# Altium footprint library Pattern No3d 20090609.PcbLib: 323 footprints (part 4 of 22)
Each footprint in its own frame and in the unit in brackets; x right, y up, seen from the top. Pads: shape width x height; smd on the part's side, far side on the other; paste and mask are expansions set on the pad; w line width, h text height; cw(c..) or ccw(c..) is an arc to the next point about the centre after c.
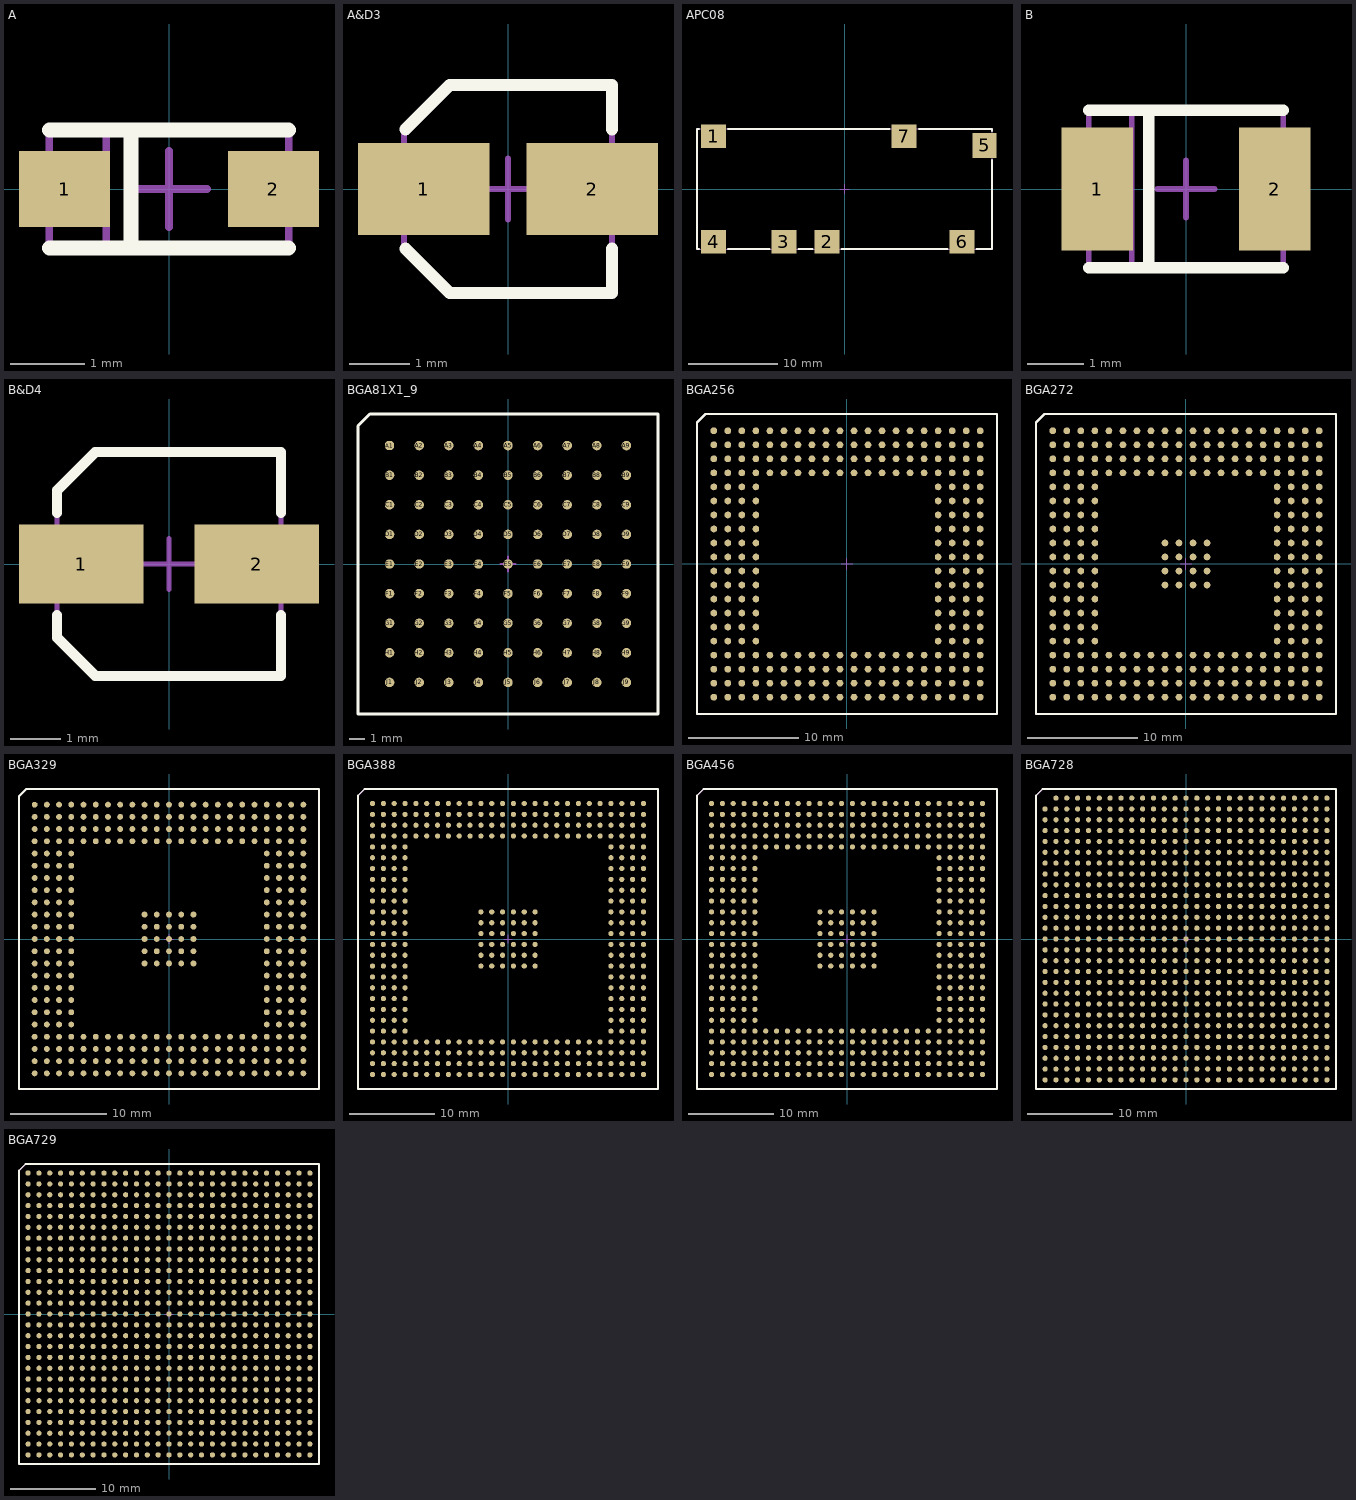
[diagram p3: the footprints below, top view; thin cyan lines are the x and y axes]

## A [mil] "http://www.rohm.com/products/passive/ta_capacitor/pdf/catalog.pdf (Case A)"
pads (2):
  rect 48x40 smd mask+4: 1(-55,0) 2(55,0)
Top Overlay:
  lines w8: -63,-31 63,-31 ; -63,31 63,31 ; -20,-31 -20,31
Mechanical 1:
  lines w4: -33,-31 -33,31 ; -63,-31 63,-31 63,31 -63,31 -63,-31
Mechanical 15:
  lines w4: -20,0 20,0 ; 0,-20 0,20

## A&D3 [mil] "http://www.panasonic.com/industrial/components/pdf/pic_vs_series.pdf (Size A)"
pads (2):
  rect 86x60 smd mask+4: 1(-55,0) 2(55,0)
Top Overlay:
  lines w8: -67,-39 -38,-68 68,-68 68,-39 ; -67,39 -38,68 68,68 68,39
Mechanical 1:
  lines w4: -68,-38 -68,38 -38,68 68,68 68,-68 -38,-68 -68,-38
Mechanical 15:
  lines w4: -20,0 20,0 ; 0,-20 0,20

## APC08 [mil] "http://www.powerconversion.com/assets/apc08_ds_1191525496.pdf"
pads (7):
  rect 110x104 smd mask+4: 1(-577,232) 2(-77,-232) 3(-267,-232) 4(-577,-232) 6(518,-232) 7(263,232)
  rect 104x110 smd mask+4: 5(617,192)
Top Overlay:
  lines w8: -641,-265 -650,-265 -650,265 -641,265 ; -513,-265 -331,-265 ; -513,265 199,265 ; -203,-265 -141,-265 ; -13,-265 454,-265 ; 327,265 650,265 650,256 ; 582,-265 650,-265 650,128
Mechanical 1:
  lines w4: -650,-265 -650,265 650,265 650,-265 -650,-265
Mechanical 15:
  lines w4: -20,0 20,0 ; 0,-20 0,20

## B [mil] "http://www.rohm.com/products/passive/ta_capacitor/pdf/catalog.pdf (Case B)"
pads (2):
  rect 50x86 smd mask+4: 1(-62,0) 2(62,0)
Top Overlay:
  lines w8: -68,-55 68,-55 ; -68,55 68,55 ; -26,-55 -26,55
Mechanical 1:
  lines w4: -38,-55 -38,55 ; -68,-55 -68,55 68,55 68,-55 -68,-55
Mechanical 15:
  lines w4: -20,0 20,0 ; 0,-20 0,20

## B&D4 [mil] "http://www.panasonic.com/industrial/components/pdf/pic_vs_series.pdf (Size B)"
pads (2):
  rect 98x62 smd mask+4: 1(-69,0) 2(69,0)
Top Overlay:
  lines w8: -88,-40 -88,-58 -58,-88 88,-88 88,-40 ; -88,40 -88,58 -58,88 88,88 88,40
Mechanical 1:
  lines w4: -88,-58 -58,-88 88,-88 88,88 -58,88 -88,58 -88,-58
Mechanical 15:
  lines w4: -20,0 20,0 ; 0,-20 0,20

## BGA81X1_9 [mil] "http://www.nationalhybrid.com:8080/downloads/NHI-156XXXPBGA_Product_Brief.pdf"
pads (81):
  oct 23x23 smd mask+3: A1(-300,300)
  round 24 smd mask+3: A2(-225,300) A3(-150,300) A4(-75,300) A5(0,300) A6(75,300) A7(150,300) A8(225,300) A9(300,300) B1(-300,225) B2(-225,225) B3(-150,225) B4(-75,225) B5(0,225) B6(75,225) B7(150,225) B8(225,225) B9(300,225) C1(-300,150) C2(-225,150) C3(-150,150) C4(-75,150) C5(0,150) C6(75,150) C7(150,150) C8(225,150) C9(300,150) D1(-300,75) D2(-225,75) D3(-150,75) D4(-75,75) D5(0,75) D6(75,75) D7(150,75) D8(225,75) D9(300,75) E1(-300,0) E2(-225,0) E3(-150,0) E4(-75,0) E5(0,0) E6(75,0) E7(150,0) E8(225,0) E9(300,0) F1(-300,-75) F2(-225,-75) F3(-150,-75) F4(-75,-75) F5(0,-75) F6(75,-75) F7(150,-75) F8(225,-75) F9(300,-75) G1(-300,-150) G2(-225,-150) G3(-150,-150) G4(-75,-150) G5(0,-150) G6(75,-150) G7(150,-150) G8(225,-150) G9(300,-150) H1(-300,-225) H2(-225,-225) H3(-150,-225) H4(-75,-225) H5(0,-225) H6(75,-225) H7(150,-225) H8(225,-225) H9(300,-225) J1(-300,-300) J2(-225,-300) J3(-150,-300) J4(-75,-300) J5(0,-300) J6(75,-300) J7(150,-300) J8(225,-300) J9(300,-300)
Top Overlay:
  lines w8: -380,-380 -380,350 -350,380 380,380 380,-380 -380,-380
Mechanical 1:
  lines w4: -380,-380 -380,350 -350,380 380,380 380,-380 -380,-380
Mechanical 15:
  lines w4: -20,0 20,0 ; 0,-20 0,20

## BGA256 [mil] "http://www.xilinx.com/support/documentation/package_specs/bg256.pdf"
pads (256):
  oct 23x23 smd mask+3: A1(-475,475)
  round 24 smd mask+3: A2(-425,475) A3(-375,475) A4(-325,475) A5(-275,475) A6(-225,475) A7(-175,475) A8(-125,475) A9(-75,475) A10(-25,475) A11(25,475) A12(75,475) A13(125,475) A14(175,475) A15(225,475) A16(275,475) A17(325,475) A18(375,475) A19(425,475) A20(475,475) B1(-475,425) B2(-425,425) B3(-375,425) B4(-325,425) B5(-275,425) B6(-225,425) B7(-175,425) B8(-125,425) B9(-75,425) B10(-25,425) B11(25,425) B12(75,425) B13(125,425) B14(175,425) B15(225,425) B16(275,425) B17(325,425) B18(375,425) B19(425,425) B20(475,425) C1(-475,375) C2(-425,375) C3(-375,375) C4(-325,375) C5(-275,375) C6(-225,375) C7(-175,375) C8(-125,375) C9(-75,375) C10(-25,375) C11(25,375) C12(75,375) C13(125,375) C14(175,375) C15(225,375) C16(275,375) C17(325,375) C18(375,375) C19(425,375) C20(475,375) D1(-475,325) D2(-425,325) D3(-375,325) D4(-325,325) D5(-275,325) D6(-225,325) D7(-175,325) D8(-125,325) D9(-75,325) D10(-25,325) D11(25,325) D12(75,325) D13(125,325) D14(175,325) D15(225,325) D16(275,325) D17(325,325) D18(375,325) D19(425,325) D20(475,325) E1(-475,275) E2(-425,275) E3(-375,275) E4(-325,275) E17(325,275) E18(375,275) E19(425,275) E20(475,275) F1(-475,225) F2(-425,225) F3(-375,225) F4(-325,225) F17(325,225) F18(375,225) F19(425,225) F20(475,225) G1(-475,175) G2(-425,175) G3(-375,175) G4(-325,175) G17(325,175) G18(375,175) G19(425,175) G20(475,175) H1(-475,125) H2(-425,125) H3(-375,125) H4(-325,125) H17(325,125) H18(375,125) H19(425,125) H20(475,125) J1(-475,75) J2(-425,75) J3(-375,75) J4(-325,75) J17(325,75) J18(375,75) J19(425,75) J20(475,75) K1(-475,25) K2(-425,25) K3(-375,25) K4(-325,25) K17(325,25) K18(375,25) K19(425,25) K20(475,25) L1(-475,-25) L2(-425,-25) L3(-375,-25) L4(-325,-25) L17(325,-25) L18(375,-25) L19(425,-25) L20(475,-25) M1(-475,-75) M2(-425,-75) M3(-375,-75) M4(-325,-75) M17(325,-75) M18(375,-75) M19(425,-75) M20(475,-75) N1(-475,-125) N2(-425,-125) N3(-375,-125) N4(-325,-125) N17(325,-125) N18(375,-125) N19(425,-125) N20(475,-125) P1(-475,-175) P2(-425,-175) P3(-375,-175) P4(-325,-175) P17(325,-175) P18(375,-175) P19(425,-175) P20(475,-175) R1(-475,-225) R2(-425,-225) R3(-375,-225) R4(-325,-225) R17(325,-225) R18(375,-225) R19(425,-225) R20(475,-225) T1(-475,-275) T2(-425,-275) T3(-375,-275) T4(-325,-275) T17(325,-275) T18(375,-275) T19(425,-275) T20(475,-275) U1(-475,-325) U2(-425,-325) U3(-375,-325) U4(-325,-325) U5(-275,-325) U6(-225,-325) U7(-175,-325) U8(-125,-325) U9(-75,-325) U10(-25,-325) U11(25,-325) U12(75,-325) U13(125,-325) U14(175,-325) U15(225,-325) U16(275,-325) U17(325,-325) U18(375,-325) U19(425,-325) U20(475,-325) V1(-475,-375) V2(-425,-375) V3(-375,-375) V4(-325,-375) V5(-275,-375) V6(-225,-375) V7(-175,-375) V8(-125,-375) V9(-75,-375) V10(-25,-375) V11(25,-375) V12(75,-375) V13(125,-375) V14(175,-375) V15(225,-375) V16(275,-375) V17(325,-375) V18(375,-375) V19(425,-375) V20(475,-375) W1(-475,-425) W2(-425,-425) W3(-375,-425) W4(-325,-425) W5(-275,-425) W6(-225,-425) W7(-175,-425) W8(-125,-425) W9(-75,-425) W10(-25,-425) W11(25,-425) W12(75,-425) W13(125,-425) W14(175,-425) W15(225,-425) W16(275,-425) W17(325,-425) W18(375,-425) W19(425,-425) W20(475,-425) Y1(-475,-475) Y2(-425,-475) Y3(-375,-475) Y4(-325,-475) Y5(-275,-475) Y6(-225,-475) Y7(-175,-475) Y8(-125,-475) Y9(-75,-475) Y10(-25,-475) Y11(25,-475) Y12(75,-475) Y13(125,-475) Y14(175,-475) Y15(225,-475) Y16(275,-475) Y17(325,-475) Y18(375,-475) Y19(425,-475) Y20(475,-475)
Top Overlay:
  lines w8: -535,-535 -535,505 -505,535 535,535 535,-535 -535,-535
Mechanical 1:
  lines w4: -535,-535 -535,505 -505,535 535,535 535,-535 -535,-535
Mechanical 15:
  lines w4: -20,0 20,0 ; 0,-20 0,20

## BGA272 [mil] "http://www.actel.com/documents/PckgMechDrwngs.pdf (PBGA272)"
pads (272):
  oct 23x23 smd mask+3: A1(-475,475)
  round 24 smd mask+3: A2(-425,475) A3(-375,475) A4(-325,475) A5(-275,475) A6(-225,475) A7(-175,475) A8(-125,475) A9(-75,475) A10(-25,475) A11(25,475) A12(75,475) A13(125,475) A14(175,475) A15(225,475) A16(275,475) A17(325,475) A18(375,475) A19(425,475) A20(475,475) B1(-475,425) B2(-425,425) B3(-375,425) B4(-325,425) B5(-275,425) B6(-225,425) B7(-175,425) B8(-125,425) B9(-75,425) B10(-25,425) B11(25,425) B12(75,425) B13(125,425) B14(175,425) B15(225,425) B16(275,425) B17(325,425) B18(375,425) B19(425,425) B20(475,425) C1(-475,375) C2(-425,375) C3(-375,375) C4(-325,375) C5(-275,375) C6(-225,375) C7(-175,375) C8(-125,375) C9(-75,375) C10(-25,375) C11(25,375) C12(75,375) C13(125,375) C14(175,375) C15(225,375) C16(275,375) C17(325,375) C18(375,375) C19(425,375) C20(475,375) D1(-475,325) D2(-425,325) D3(-375,325) D4(-325,325) D5(-275,325) D6(-225,325) D7(-175,325) D8(-125,325) D9(-75,325) D10(-25,325) D11(25,325) D12(75,325) D13(125,325) D14(175,325) D15(225,325) D16(275,325) D17(325,325) D18(375,325) D19(425,325) D20(475,325) E1(-475,275) E2(-425,275) E3(-375,275) E4(-325,275) E17(325,275) E18(375,275) E19(425,275) E20(475,275) F1(-475,225) F2(-425,225) F3(-375,225) F4(-325,225) F17(325,225) F18(375,225) F19(425,225) F20(475,225) G1(-475,175) G2(-425,175) G3(-375,175) G4(-325,175) G17(325,175) G18(375,175) G19(425,175) G20(475,175) H1(-475,125) H2(-425,125) H3(-375,125) H4(-325,125) H17(325,125) H18(375,125) H19(425,125) H20(475,125) J1(-475,75) J2(-425,75) J3(-375,75) J4(-325,75) J9(-75,75) J10(-25,75) J11(25,75) J12(75,75) J17(325,75) J18(375,75) J19(425,75) J20(475,75) K1(-475,25) K2(-425,25) K3(-375,25) K4(-325,25) K9(-75,25) K10(-25,25) K11(25,25) K12(75,25) K17(325,25) K18(375,25) K19(425,25) K20(475,25) L1(-475,-25) L2(-425,-25) L3(-375,-25) L4(-325,-25) L9(-75,-25) L10(-25,-25) L11(25,-25) L12(75,-25) L17(325,-25) L18(375,-25) L19(425,-25) L20(475,-25) M1(-475,-75) M2(-425,-75) M3(-375,-75) M4(-325,-75) M9(-75,-75) M10(-25,-75) M11(25,-75) M12(75,-75) M17(325,-75) M18(375,-75) M19(425,-75) M20(475,-75) N1(-475,-125) N2(-425,-125) N3(-375,-125) N4(-325,-125) N17(325,-125) N18(375,-125) N19(425,-125) N20(475,-125) P1(-475,-175) P2(-425,-175) P3(-375,-175) P4(-325,-175) P17(325,-175) P18(375,-175) P19(425,-175) P20(475,-175) R1(-475,-225) R2(-425,-225) R3(-375,-225) R4(-325,-225) R17(325,-225) R18(375,-225) R19(425,-225) R20(475,-225) T1(-475,-275) T2(-425,-275) T3(-375,-275) T4(-325,-275) T17(325,-275) T18(375,-275) T19(425,-275) T20(475,-275) U1(-475,-325) U2(-425,-325) U3(-375,-325) U4(-325,-325) U5(-275,-325) U6(-225,-325) U7(-175,-325) U8(-125,-325) U9(-75,-325) U10(-25,-325) U11(25,-325) U12(75,-325) U13(125,-325) U14(175,-325) U15(225,-325) U16(275,-325) U17(325,-325) U18(375,-325) U19(425,-325) U20(475,-325) V1(-475,-375) V2(-425,-375) V3(-375,-375) V4(-325,-375) V5(-275,-375) V6(-225,-375) V7(-175,-375) V8(-125,-375) V9(-75,-375) V10(-25,-375) V11(25,-375) V12(75,-375) V13(125,-375) V14(175,-375) V15(225,-375) V16(275,-375) V17(325,-375) V18(375,-375) V19(425,-375) V20(475,-375) W1(-475,-425) W2(-425,-425) W3(-375,-425) W4(-325,-425) W5(-275,-425) W6(-225,-425) W7(-175,-425) W8(-125,-425) W9(-75,-425) W10(-25,-425) W11(25,-425) W12(75,-425) W13(125,-425) W14(175,-425) W15(225,-425) W16(275,-425) W17(325,-425) W18(375,-425) W19(425,-425) W20(475,-425) Y1(-475,-475) Y2(-425,-475) Y3(-375,-475) Y4(-325,-475) Y5(-275,-475) Y6(-225,-475) Y7(-175,-475) Y8(-125,-475) Y9(-75,-475) Y10(-25,-475) Y11(25,-475) Y12(75,-475) Y13(125,-475) Y14(175,-475) Y15(225,-475) Y16(275,-475) Y17(325,-475) Y18(375,-475) Y19(425,-475) Y20(475,-475)
Top Overlay:
  lines w8: -535,-535 -535,505 -505,535 535,535 535,-535 -535,-535
Mechanical 1:
  lines w4: -535,-535 -535,505 -505,535 535,535 535,-535 -535,-535
Mechanical 15:
  lines w4: -20,0 20,0 ; 0,-20 0,20

## BGA329 [mil] "http://www.actel.com/documents/PckgMechDrwngs.pdf (PBGA329)"
pads (329):
  oct 23x23 smd mask+3: A1(-550,550)
  round 24 smd mask+3: A2(-500,550) A3(-450,550) A4(-400,550) A5(-350,550) A6(-300,550) A7(-250,550) A8(-200,550) A9(-150,550) A10(-100,550) A11(-50,550) A12(0,550) A13(50,550) A14(100,550) A15(150,550) A16(200,550) A17(250,550) A18(300,550) A19(350,550) A20(400,550) A21(450,550) A22(500,550) A23(550,550) AA1(-550,-450) AA2(-500,-450) AA3(-450,-450) AA4(-400,-450) AA5(-350,-450) AA6(-300,-450) AA7(-250,-450) AA8(-200,-450) AA9(-150,-450) AA10(-100,-450) AA11(-50,-450) AA12(0,-450) AA13(50,-450) AA14(100,-450) AA15(150,-450) AA16(200,-450) AA17(250,-450) AA18(300,-450) AA19(350,-450) AA20(400,-450) AA21(450,-450) AA22(500,-450) AA23(550,-450) AB1(-550,-500) AB2(-500,-500) AB3(-450,-500) AB4(-400,-500) AB5(-350,-500) AB6(-300,-500) AB7(-250,-500) AB8(-200,-500) AB9(-150,-500) AB10(-100,-500) AB11(-50,-500) AB12(0,-500) AB13(50,-500) AB14(100,-500) AB15(150,-500) AB16(200,-500) AB17(250,-500) AB18(300,-500) AB19(350,-500) AB20(400,-500) AB21(450,-500) AB22(500,-500) AB23(550,-500) AC1(-550,-550) AC2(-500,-550) AC3(-450,-550) AC4(-400,-550) AC5(-350,-550) AC6(-300,-550) AC7(-250,-550) AC8(-200,-550) AC9(-150,-550) AC10(-100,-550) AC11(-50,-550) AC12(0,-550) AC13(50,-550) AC14(100,-550) AC15(150,-550) AC16(200,-550) AC17(250,-550) AC18(300,-550) AC19(350,-550) AC20(400,-550) AC21(450,-550) AC22(500,-550) AC23(550,-550) B2(-500,500) B3(-450,500) B4(-400,500) B5(-350,500) B6(-300,500) B7(-250,500) B8(-200,500) B9(-150,500) B10(-100,500) B11(-50,500) B12(0,500) B13(50,500) B14(100,500) B15(150,500) B16(200,500) B17(250,500) B18(300,500) B19(350,500) B20(400,500) B21(450,500) B22(500,500) B23(550,500) C1(-550,450) C2(-500,450) C3(-450,450) C4(-400,450) C5(-350,450) C6(-300,450) C7(-250,450) C8(-200,450) C9(-150,450) C10(-100,450) C11(-50,450) C12(0,450) C13(50,450) C14(100,450) C15(150,450) C16(200,450) C17(250,450) C18(300,450) C19(350,450) C20(400,450) C21(450,450) C22(500,450) C23(550,450) D1(-550,400) D2(-500,400) D3(-450,400) D4(-400,400) D5(-350,400) D6(-300,400) D7(-250,400) D8(-200,400) D9(-150,400) D10(-100,400) D11(-50,400) D12(0,400) D13(50,400) D14(100,400) D15(150,400) D16(200,400) D17(250,400) D18(300,400) D19(350,400) D20(400,400) D21(450,400) D22(500,400) D23(550,400) E1(-550,350) E2(-500,350) E3(-450,350) E4(-400,350) E20(400,350) E21(450,350) E22(500,350) E23(550,350) F1(-550,300) F2(-500,300) F3(-450,300) F4(-400,300) F20(400,300) F21(450,300) F22(500,300) F23(550,300) G1(-550,250) G2(-500,250) G3(-450,250) G4(-400,250) G20(400,250) G21(450,250) G22(500,250) G23(550,250) H1(-550,200) H2(-500,200) H3(-450,200) H4(-400,200) H20(400,200) H21(450,200) H22(500,200) H23(550,200) J1(-550,150) J2(-500,150) J3(-450,150) J4(-400,150) J20(400,150) J21(450,150) J22(500,150) J23(550,150) K1(-550,100) K2(-500,100) K3(-450,100) K4(-400,100) K10(-100,100) K11(-50,100) K12(0,100) K13(50,100) K14(100,100) K20(400,100) K21(450,100) K22(500,100) K23(550,100) L1(-550,50) L2(-500,50) L3(-450,50) L4(-400,50) L10(-100,50) L11(-50,50) L12(0,50) L13(50,50) L14(100,50) L20(400,50) L21(450,50) L22(500,50) L23(550,50) M1(-550,0) M2(-500,0) M3(-450,0) M4(-400,0) M10(-100,0) M11(-50,0) M12(0,0) M13(50,0) M14(100,0) M20(400,0) M21(450,0) M22(500,0) M23(550,0) N1(-550,-50) N2(-500,-50) N3(-450,-50) N4(-400,-50) N10(-100,-50) N11(-50,-50) N12(0,-50) N13(50,-50) N14(100,-50) N20(400,-50) N21(450,-50) N22(500,-50) N23(550,-50) P1(-550,-100) P2(-500,-100) P3(-450,-100) P4(-400,-100) P10(-100,-100) P11(-50,-100) P12(0,-100) P13(50,-100) P14(100,-100) P20(400,-100) P21(450,-100) P22(500,-100) P23(550,-100) R1(-550,-150) R2(-500,-150) R3(-450,-150) R4(-400,-150) R20(400,-150) R21(450,-150) R22(500,-150) R23(550,-150) T1(-550,-200) T2(-500,-200) T3(-450,-200) T4(-400,-200) T20(400,-200) T21(450,-200) T22(500,-200) T23(550,-200) U1(-550,-250) U2(-500,-250) U3(-450,-250) U4(-400,-250) U20(400,-250) U21(450,-250) U22(500,-250) U23(550,-250) V1(-550,-300) V2(-500,-300) V3(-450,-300) V4(-400,-300) V20(400,-300) V21(450,-300) V22(500,-300) V23(550,-300) W1(-550,-350) W2(-500,-350) W3(-450,-350) W4(-400,-350) W20(400,-350) W21(450,-350) W22(500,-350) W23(550,-350) Y1(-550,-400) Y2(-500,-400) Y3(-450,-400) Y4(-400,-400) Y5(-350,-400) Y6(-300,-400) Y7(-250,-400) Y8(-200,-400) Y9(-150,-400) Y10(-100,-400) Y11(-50,-400) Y12(0,-400) Y13(50,-400) Y14(100,-400) Y15(150,-400) Y16(200,-400) Y17(250,-400) Y18(300,-400) Y19(350,-400) Y20(400,-400) Y21(450,-400) Y22(500,-400) Y23(550,-400)
  round 24 smd paste+0 mask+3: B1(-550,500)
Top Overlay:
  lines w8: -614,-614 614,-614 614,614 -584,614 -614,584 -614,-614
Mechanical 1:
  lines w4: -614,-614 614,-614 614,614 -584,614 -614,584 -614,-614
Mechanical 15:
  lines w4: -20,0 20,0 ; 0,-20 0,20

## BGA388 [mil] "http://www.xilinx.com/support/documentation/package_specs/bg388.pdf"
pads (388):
  oct 23x23 smd mask+3: A1(-625,625)
  round 24 smd mask+3: A2(-575,625) A3(-525,625) A4(-475,625) A5(-425,625) A6(-375,625) A7(-325,625) A8(-275,625) A9(-225,625) A10(-175,625) A11(-125,625) A12(-75,625) A13(-25,625) A14(25,625) A15(75,625) A16(125,625) A17(175,625) A18(225,625) A19(275,625) A20(325,625) A21(375,625) A22(425,625) A23(475,625) A24(525,625) A25(575,625) A26(625,625) AA1(-625,-375) AA2(-575,-375) AA3(-525,-375) AA4(-475,-375) AA23(475,-375) AA24(525,-375) AA25(575,-375) AA26(625,-375) AB1(-625,-425) AB2(-575,-425) AB3(-525,-425) AB4(-475,-425) AB23(475,-425) AB24(525,-425) AB25(575,-425) AB26(625,-425) AC1(-625,-475) AC2(-575,-475) AC3(-525,-475) AC4(-475,-475) AC5(-425,-475) AC6(-375,-475) AC7(-325,-475) AC8(-275,-475) AC9(-225,-475) AC10(-175,-475) AC11(-125,-475) AC12(-75,-475) AC13(-25,-475) AC14(25,-475) AC15(75,-475) AC16(125,-475) AC17(175,-475) AC18(225,-475) AC19(275,-475) AC20(325,-475) AC21(375,-475) AC22(425,-475) AC23(475,-475) AC24(525,-475) AC25(575,-475) AC26(625,-475) AD1(-625,-525) AD2(-575,-525) AD3(-525,-525) AD4(-475,-525) AD5(-425,-525) AD6(-375,-525) AD7(-325,-525) AD8(-275,-525) AD9(-225,-525) AD10(-175,-525) AD11(-125,-525) AD12(-75,-525) AD13(-25,-525) AD14(25,-525) AD15(75,-525) AD16(125,-525) AD17(175,-525) AD18(225,-525) AD19(275,-525) AD20(325,-525) AD21(375,-525) AD22(425,-525) AD23(475,-525) AD24(525,-525) AD25(575,-525) AD26(625,-525) AE1(-625,-575) AE2(-575,-575) AE3(-525,-575) AE4(-475,-575) AE5(-425,-575) AE6(-375,-575) AE7(-325,-575) AE8(-275,-575) AE9(-225,-575) AE10(-175,-575) AE11(-125,-575) AE12(-75,-575) AE13(-25,-575) AE14(25,-575) AE15(75,-575) AE16(125,-575) AE17(175,-575) AE18(225,-575) AE19(275,-575) AE20(325,-575) AE21(375,-575) AE22(425,-575) AE23(475,-575) AE24(525,-575) AE25(575,-575) AE26(625,-575) AF1(-625,-625) AF2(-575,-625) AF3(-525,-625) AF4(-475,-625) AF5(-425,-625) AF6(-375,-625) AF7(-325,-625) AF8(-275,-625) AF9(-225,-625) AF10(-175,-625) AF11(-125,-625) AF12(-75,-625) AF13(-25,-625) AF14(25,-625) AF15(75,-625) AF16(125,-625) AF17(175,-625) AF18(225,-625) AF19(275,-625) AF20(325,-625) AF21(375,-625) AF22(425,-625) AF23(475,-625) AF24(525,-625) AF25(575,-625) AF26(625,-625) B1(-625,575) B2(-575,575) B3(-525,575) B4(-475,575) B5(-425,575) B6(-375,575) B7(-325,575) B8(-275,575) B9(-225,575) B10(-175,575) B11(-125,575) B12(-75,575) B13(-25,575) B14(25,575) B15(75,575) B16(125,575) B17(175,575) B18(225,575) B19(275,575) B20(325,575) B21(375,575) B22(425,575) B23(475,575) B24(525,575) B25(575,575) B26(625,575) C1(-625,525) C2(-575,525) C3(-525,525) C4(-475,525) C5(-425,525) C6(-375,525) C7(-325,525) C8(-275,525) C9(-225,525) C10(-175,525) C11(-125,525) C12(-75,525) C13(-25,525) C14(25,525) C15(75,525) C16(125,525) C17(175,525) C18(225,525) C19(275,525) C20(325,525) C21(375,525) C22(425,525) C23(475,525) C24(525,525) C25(575,525) C26(625,525) D1(-625,475) D2(-575,475) D3(-525,475) D4(-475,475) D5(-425,475) D6(-375,475) D7(-325,475) D8(-275,475) D9(-225,475) D10(-175,475) D11(-125,475) D12(-75,475) D13(-25,475) D14(25,475) D15(75,475) D16(125,475) D17(175,475) D18(225,475) D19(275,475) D20(325,475) D21(375,475) D22(425,475) D23(475,475) D24(525,475) D25(575,475) D26(625,475) E1(-625,425) E2(-575,425) E3(-525,425) E4(-475,425) E23(475,425) E24(525,425) E25(575,425) E26(625,425) F1(-625,375) F2(-575,375) F3(-525,375) F4(-475,375) F23(475,375) F24(525,375) F25(575,375) F26(625,375) G1(-625,325) G2(-575,325) G3(-525,325) G4(-475,325) G23(475,325) G24(525,325) G25(575,325) G26(625,325) H1(-625,275) H2(-575,275) H3(-525,275) H4(-475,275) H23(475,275) H24(525,275) H25(575,275) H26(625,275) J1(-625,225) J2(-575,225) J3(-525,225) J4(-475,225) J23(475,225) J24(525,225) J25(575,225) J26(625,225) K1(-625,175) K2(-575,175) K3(-525,175) K4(-475,175) K23(475,175) K24(525,175) K25(575,175) K26(625,175) L1(-625,125) L2(-575,125) L3(-525,125) L4(-475,125) L11(-125,125) L12(-75,125) L13(-25,125) L14(25,125) L15(75,125) L16(125,125) L23(475,125) L24(525,125) L25(575,125) L26(625,125) M1(-625,75) M2(-575,75) M3(-525,75) M4(-475,75) M11(-125,75) M12(-75,75) M13(-25,75) M14(25,75) M15(75,75) M16(125,75) M23(475,75) M24(525,75) M25(575,75) M26(625,75) N1(-625,25) N2(-575,25) N3(-525,25) N4(-475,25) N11(-125,25) N12(-75,25) N13(-25,25) N14(25,25) N15(75,25) N16(125,25) N23(475,25) N24(525,25) N25(575,25) N26(625,25) P1(-625,-25) P2(-575,-25) P3(-525,-25) P4(-475,-25) P11(-125,-25) P12(-75,-25) P13(-25,-25) P14(25,-25) P15(75,-25) P16(125,-25) P23(475,-25) P24(525,-25) P25(575,-25) P26(625,-25) R1(-625,-75) R2(-575,-75) R3(-525,-75) R4(-475,-75) R11(-125,-75) R12(-75,-75) R13(-25,-75) R14(25,-75) R15(75,-75) R16(125,-75) R23(475,-75) R24(525,-75) R25(575,-75) R26(625,-75) T1(-625,-125) T2(-575,-125) T3(-525,-125) T4(-475,-125) T11(-125,-125) T12(-75,-125) T13(-25,-125) T14(25,-125) T15(75,-125) T16(125,-125) T23(475,-125) T24(525,-125) T25(575,-125) T26(625,-125) U1(-625,-175) U2(-575,-175) U3(-525,-175) U4(-475,-175) U23(475,-175) U24(525,-175) U25(575,-175) U26(625,-175) V1(-625,-225) V2(-575,-225) V3(-525,-225) V4(-475,-225) V23(475,-225) V24(525,-225) V25(575,-225) V26(625,-225) W1(-625,-275) W2(-575,-275) W3(-525,-275) W4(-475,-275) W23(475,-275) W24(525,-275) W25(575,-275) W26(625,-275) Y1(-625,-325) Y2(-575,-325) Y3(-525,-325) Y4(-475,-325) Y23(475,-325) Y24(525,-325) Y25(575,-325) Y26(625,-325)
Top Overlay:
  lines w8: -692,-692 -692,662 -662,692 692,692 692,-692 -692,-692
Mechanical 1:
  lines w4: -692,-692 -692,662 -662,692 692,692 692,-692 -692,-692
Mechanical 15:
  lines w4: -20,0 20,0 ; 0,-20 0,20

## BGA456 [mil] "http://www.actel.com/documents/PckgMechDrwngs.pdf (PBGA456)"
pads (456):
  oct 23x23 smd mask+3: A1(-625,625)
  round 24 smd mask+3: A2(-575,625) A3(-525,625) A4(-475,625) A5(-425,625) A6(-375,625) A7(-325,625) A8(-275,625) A9(-225,625) A10(-175,625) A11(-125,625) A12(-75,625) A13(-25,625) A14(25,625) A15(75,625) A16(125,625) A17(175,625) A18(225,625) A19(275,625) A20(325,625) A21(375,625) A22(425,625) A23(475,625) A24(525,625) A25(575,625) A26(625,625) AA1(-625,-375) AA2(-575,-375) AA3(-525,-375) AA4(-475,-375) AA5(-425,-375) AA22(425,-375) AA23(475,-375) AA24(525,-375) AA25(575,-375) AA26(625,-375) AB1(-625,-425) AB2(-575,-425) AB3(-525,-425) AB4(-475,-425) AB5(-425,-425) AB6(-375,-425) AB7(-325,-425) AB8(-275,-425) AB9(-225,-425) AB10(-175,-425) AB11(-125,-425) AB12(-75,-425) AB13(-25,-425) AB14(25,-425) AB15(75,-425) AB16(125,-425) AB17(175,-425) AB18(225,-425) AB19(275,-425) AB20(325,-425) AB21(375,-425) AB22(425,-425) AB23(475,-425) AB24(525,-425) AB25(575,-425) AB26(625,-425) AC1(-625,-475) AC2(-575,-475) AC3(-525,-475) AC4(-475,-475) AC5(-425,-475) AC6(-375,-475) AC7(-325,-475) AC8(-275,-475) AC9(-225,-475) AC10(-175,-475) AC11(-125,-475) AC12(-75,-475) AC13(-25,-475) AC14(25,-475) AC15(75,-475) AC16(125,-475) AC17(175,-475) AC18(225,-475) AC19(275,-475) AC20(325,-475) AC21(375,-475) AC22(425,-475) AC23(475,-475) AC24(525,-475) AC25(575,-475) AC26(625,-475) AD1(-625,-525) AD2(-575,-525) AD3(-525,-525) AD4(-475,-525) AD5(-425,-525) AD6(-375,-525) AD7(-325,-525) AD8(-275,-525) AD9(-225,-525) AD10(-175,-525) AD11(-125,-525) AD12(-75,-525) AD13(-25,-525) AD14(25,-525) AD15(75,-525) AD16(125,-525) AD17(175,-525) AD18(225,-525) AD19(275,-525) AD20(325,-525) AD21(375,-525) AD22(425,-525) AD23(475,-525) AD24(525,-525) AD25(575,-525) AD26(625,-525) AE1(-625,-575) AE2(-575,-575) AE3(-525,-575) AE4(-475,-575) AE5(-425,-575) AE6(-375,-575) AE7(-325,-575) AE8(-275,-575) AE9(-225,-575) AE10(-175,-575) AE11(-125,-575) AE12(-75,-575) AE13(-25,-575) AE14(25,-575) AE15(75,-575) AE16(125,-575) AE17(175,-575) AE18(225,-575) AE19(275,-575) AE20(325,-575) AE21(375,-575) AE22(425,-575) AE23(475,-575) AE24(525,-575) AE25(575,-575) AE26(625,-575) AF1(-625,-625) AF2(-575,-625) AF3(-525,-625) AF4(-475,-625) AF5(-425,-625) AF6(-375,-625) AF7(-325,-625) AF8(-275,-625) AF9(-225,-625) AF10(-175,-625) AF11(-125,-625) AF12(-75,-625) AF13(-25,-625) AF14(25,-625) AF15(75,-625) AF16(125,-625) AF17(175,-625) AF18(225,-625) AF19(275,-625) AF20(325,-625) AF21(375,-625) AF22(425,-625) AF23(475,-625) AF24(525,-625) AF25(575,-625) AF26(625,-625) B1(-625,575) B2(-575,575) B3(-525,575) B4(-475,575) B5(-425,575) B6(-375,575) B7(-325,575) B8(-275,575) B9(-225,575) B10(-175,575) B11(-125,575) B12(-75,575) B13(-25,575) B14(25,575) B15(75,575) B16(125,575) B17(175,575) B18(225,575) B19(275,575) B20(325,575) B21(375,575) B22(425,575) B23(475,575) B24(525,575) B25(575,575) B26(625,575) C1(-625,525) C2(-575,525) C3(-525,525) C4(-475,525) C5(-425,525) C6(-375,525) C7(-325,525) C8(-275,525) C9(-225,525) C10(-175,525) C11(-125,525) C12(-75,525) C13(-25,525) C14(25,525) C15(75,525) C16(125,525) C17(175,525) C18(225,525) C19(275,525) C20(325,525) C21(375,525) C22(425,525) C23(475,525) C24(525,525) C25(575,525) C26(625,525) D1(-625,475) D2(-575,475) D3(-525,475) D4(-475,475) D5(-425,475) D6(-375,475) D7(-325,475) D8(-275,475) D9(-225,475) D10(-175,475) D11(-125,475) D12(-75,475) D13(-25,475) D14(25,475) D15(75,475) D16(125,475) D17(175,475) D18(225,475) D19(275,475) D20(325,475) D21(375,475) D22(425,475) D23(475,475) D24(525,475) D25(575,475) D26(625,475) E1(-625,425) E2(-575,425) E3(-525,425) E4(-475,425) E5(-425,425) E6(-375,425) E7(-325,425) E8(-275,425) E9(-225,425) E10(-175,425) E11(-125,425) E12(-75,425) E13(-25,425) E14(25,425) E15(75,425) E16(125,425) E17(175,425) E18(225,425) E19(275,425) E20(325,425) E21(375,425) E22(425,425) E23(475,425) E24(525,425) E25(575,425) E26(625,425) F1(-625,375) F2(-575,375) F3(-525,375) F4(-475,375) F5(-425,375) F22(425,375) F23(475,375) F24(525,375) F25(575,375) F26(625,375) G1(-625,325) G2(-575,325) G3(-525,325) G4(-475,325) G5(-425,325) G22(425,325) G23(475,325) G24(525,325) G25(575,325) G26(625,325) H1(-625,275) H2(-575,275) H3(-525,275) H4(-475,275) H5(-425,275) H22(425,275) H23(475,275) H24(525,275) H25(575,275) H26(625,275) J1(-625,225) J2(-575,225) J3(-525,225) J4(-475,225) J5(-425,225) J22(425,225) J23(475,225) J24(525,225) J25(575,225) J26(625,225) K1(-625,175) K2(-575,175) K3(-525,175) K4(-475,175) K5(-425,175) K22(425,175) K23(475,175) K24(525,175) K25(575,175) K26(625,175) L1(-625,125) L2(-575,125) L3(-525,125) L4(-475,125) L5(-425,125) L11(-125,125) L12(-75,125) L13(-25,125) L14(25,125) L15(75,125) L16(125,125) L22(425,125) L23(475,125) L24(525,125) L25(575,125) L26(625,125) M1(-625,75) M2(-575,75) M3(-525,75) M4(-475,75) M5(-425,75) M11(-125,75) M12(-75,75) M13(-25,75) M14(25,75) M15(75,75) M16(125,75) M22(425,75) M23(475,75) M24(525,75) M25(575,75) M26(625,75) N1(-625,25) N2(-575,25) N3(-525,25) N4(-475,25) N5(-425,25) N11(-125,25) N12(-75,25) N13(-25,25) N14(25,25) N15(75,25) N16(125,25) N22(425,25) N23(475,25) N24(525,25) N25(575,25) N26(625,25) P1(-625,-25) P2(-575,-25) P3(-525,-25) P4(-475,-25) P5(-425,-25) P11(-125,-25) P12(-75,-25) P13(-25,-25) P14(25,-25) P15(75,-25) P16(125,-25) P22(425,-25) P23(475,-25) P24(525,-25) P25(575,-25) P26(625,-25) R1(-625,-75) R2(-575,-75) R3(-525,-75) R4(-475,-75) R5(-425,-75) R11(-125,-75) R12(-75,-75) R13(-25,-75) R14(25,-75) R15(75,-75) R16(125,-75) R22(425,-75) R23(475,-75) R24(525,-75) R25(575,-75) R26(625,-75) T1(-625,-125) T2(-575,-125) T3(-525,-125) T4(-475,-125) T5(-425,-125) T11(-125,-125) T12(-75,-125) T13(-25,-125) T14(25,-125) T15(75,-125) T16(125,-125) T22(425,-125) T23(475,-125) T24(525,-125) T25(575,-125) T26(625,-125) U1(-625,-175) U2(-575,-175) U3(-525,-175) U4(-475,-175) U5(-425,-175) U22(425,-175) U23(475,-175) U24(525,-175) U25(575,-175) U26(625,-175) V1(-625,-225) V2(-575,-225) V3(-525,-225) V4(-475,-225) V5(-425,-225) V22(425,-225) V23(475,-225) V24(525,-225) V25(575,-225) V26(625,-225) W1(-625,-275) W2(-575,-275) W3(-525,-275) W4(-475,-275) W5(-425,-275) W22(425,-275) W23(475,-275) W24(525,-275) W25(575,-275) W26(625,-275) Y1(-625,-325) Y2(-575,-325) Y3(-525,-325) Y4(-475,-325) Y5(-425,-325) Y22(425,-325) Y23(475,-325) Y24(525,-325) Y25(575,-325) Y26(625,-325)
Top Overlay:
  lines w8: -692,-692 692,-692 692,692 -662,692 -692,662 -692,-692
Mechanical 1:
  lines w4: -692,-692 692,-692 692,692 -662,692 -692,662 -692,-692
Mechanical 15:
  lines w4: -20,0 20,0 ; 0,-20 0,20

## BGA728 [mil] "http://www.xilinx.com/support/documentation/package_specs/bg728.pdf"
pads (728):
  round 24 smd mask+3: A2(-600,650) A3(-550,650) A4(-500,650) A5(-450,650) A6(-400,650) A7(-350,650) A8(-300,650) A9(-250,650) A10(-200,650) A11(-150,650) A12(-100,650) A13(-50,650) A14(0,650) A15(50,650) A16(100,650) A17(150,650) A18(200,650) A19(250,650) A20(300,650) A21(350,650) A22(400,650) A23(450,650) A24(500,650) A25(550,650) A26(600,650) A27(650,650) AA1(-650,-350) AA2(-600,-350) AA3(-550,-350) AA4(-500,-350) AA5(-450,-350) AA6(-400,-350) AA7(-350,-350) AA8(-300,-350) AA9(-250,-350) AA10(-200,-350) AA11(-150,-350) AA12(-100,-350) AA13(-50,-350) AA14(0,-350) AA15(50,-350) AA16(100,-350) AA17(150,-350) AA18(200,-350) AA19(250,-350) AA20(300,-350) AA21(350,-350) AA22(400,-350) AA23(450,-350) AA24(500,-350) AA25(550,-350) AA26(600,-350) AA27(650,-350) AB1(-650,-400) AB2(-600,-400) AB3(-550,-400) AB4(-500,-400) AB5(-450,-400) AB6(-400,-400) AB7(-350,-400) AB8(-300,-400) AB9(-250,-400) AB10(-200,-400) AB11(-150,-400) AB12(-100,-400) AB13(-50,-400) AB14(0,-400) AB15(50,-400) AB16(100,-400) AB17(150,-400) AB18(200,-400) AB19(250,-400) AB20(300,-400) AB21(350,-400) AB22(400,-400) AB23(450,-400) AB24(500,-400) AB25(550,-400) AB26(600,-400) AB27(650,-400) AC1(-650,-450) AC2(-600,-450) AC3(-550,-450) AC4(-500,-450) AC5(-450,-450) AC6(-400,-450) AC7(-350,-450) AC8(-300,-450) AC9(-250,-450) AC10(-200,-450) AC11(-150,-450) AC12(-100,-450) AC13(-50,-450) AC14(0,-450) AC15(50,-450) AC16(100,-450) AC17(150,-450) AC18(200,-450) AC19(250,-450) AC20(300,-450) AC21(350,-450) AC22(400,-450) AC23(450,-450) AC24(500,-450) AC25(550,-450) AC26(600,-450) AC27(650,-450) AD1(-650,-500) AD2(-600,-500) AD3(-550,-500) AD4(-500,-500) AD5(-450,-500) AD6(-400,-500) AD7(-350,-500) AD8(-300,-500) AD9(-250,-500) AD10(-200,-500) AD11(-150,-500) AD12(-100,-500) AD13(-50,-500) AD14(0,-500) AD15(50,-500) AD16(100,-500) AD17(150,-500) AD18(200,-500) AD19(250,-500) AD20(300,-500) AD21(350,-500) AD22(400,-500) AD23(450,-500) AD24(500,-500) AD25(550,-500) AD26(600,-500) AD27(650,-500) AE1(-650,-550) AE2(-600,-550) AE3(-550,-550) AE4(-500,-550) AE5(-450,-550) AE6(-400,-550) AE7(-350,-550) AE8(-300,-550) AE9(-250,-550) AE10(-200,-550) AE11(-150,-550) AE12(-100,-550) AE13(-50,-550) AE14(0,-550) AE15(50,-550) AE16(100,-550) AE17(150,-550) AE18(200,-550) AE19(250,-550) AE20(300,-550) AE21(350,-550) AE22(400,-550) AE23(450,-550) AE24(500,-550) AE25(550,-550) AE26(600,-550) AE27(650,-550) AF1(-650,-600) AF2(-600,-600) AF3(-550,-600) AF4(-500,-600) AF5(-450,-600) AF6(-400,-600) AF7(-350,-600) AF8(-300,-600) AF9(-250,-600) AF10(-200,-600) AF11(-150,-600) AF12(-100,-600) AF13(-50,-600) AF14(0,-600) AF15(50,-600) AF16(100,-600) AF17(150,-600) AF18(200,-600) AF19(250,-600) AF20(300,-600) AF21(350,-600) AF22(400,-600) AF23(450,-600) AF24(500,-600) AF25(550,-600) AF26(600,-600) AF27(650,-600) AG1(-650,-650) AG2(-600,-650) AG3(-550,-650) AG4(-500,-650) AG5(-450,-650) AG6(-400,-650) AG7(-350,-650) AG8(-300,-650) AG9(-250,-650) AG10(-200,-650) AG11(-150,-650) AG12(-100,-650) AG13(-50,-650) AG14(0,-650) AG15(50,-650) AG16(100,-650) AG17(150,-650) AG18(200,-650) AG19(250,-650) AG20(300,-650) AG21(350,-650) AG22(400,-650) AG23(450,-650) AG24(500,-650) AG25(550,-650) AG26(600,-650) AG27(650,-650) B2(-600,600) B3(-550,600) B4(-500,600) B5(-450,600) B6(-400,600) B7(-350,600) B8(-300,600) B9(-250,600) B10(-200,600) B11(-150,600) B12(-100,600) B13(-50,600) B14(0,600) B15(50,600) B16(100,600) B17(150,600) B18(200,600) B19(250,600) B20(300,600) B21(350,600) B22(400,600) B23(450,600) B24(500,600) B25(550,600) B26(600,600) B27(650,600) C1(-650,550) C2(-600,550) C3(-550,550) C4(-500,550) C5(-450,550) C6(-400,550) C7(-350,550) C8(-300,550) C9(-250,550) C10(-200,550) C11(-150,550) C12(-100,550) C13(-50,550) C14(0,550) C15(50,550) C16(100,550) C17(150,550) C18(200,550) C19(250,550) C20(300,550) C21(350,550) C22(400,550) C23(450,550) C24(500,550) C25(550,550) C26(600,550) C27(650,550) D1(-650,500) D2(-600,500) D3(-550,500) D4(-500,500) D5(-450,500) D6(-400,500) D7(-350,500) D8(-300,500) D9(-250,500) D10(-200,500) D11(-150,500) D12(-100,500) D13(-50,500) D14(0,500) D15(50,500) D16(100,500) D17(150,500) D18(200,500) D19(250,500) D20(300,500) D21(350,500) D22(400,500) D23(450,500) D24(500,500) D25(550,500) D26(600,500) D27(650,500) E1(-650,450) E2(-600,450) E3(-550,450) E4(-500,450) E5(-450,450) E6(-400,450) E7(-350,450) E8(-300,450) E9(-250,450) E10(-200,450) E11(-150,450) E12(-100,450) E13(-50,450) E14(0,450) E15(50,450) E16(100,450) E17(150,450) E18(200,450) E19(250,450) E20(300,450) E21(350,450) E22(400,450) E23(450,450) E24(500,450) E25(550,450) E26(600,450) E27(650,450) F1(-650,400) F2(-600,400) F3(-550,400) F4(-500,400) F5(-450,400) F6(-400,400) F7(-350,400) F8(-300,400) F9(-250,400) F10(-200,400) F11(-150,400) F12(-100,400) F13(-50,400) F14(0,400) F15(50,400) F16(100,400) F17(150,400) F18(200,400) F19(250,400) F20(300,400) F21(350,400) F22(400,400) F23(450,400) F24(500,400) F25(550,400) F26(600,400) F27(650,400) G1(-650,350) G2(-600,350) G3(-550,350) G4(-500,350) G5(-450,350) G6(-400,350) G7(-350,350) G8(-300,350) G9(-250,350) G10(-200,350) G11(-150,350) G12(-100,350) G13(-50,350) G14(0,350) G15(50,350) G16(100,350) G17(150,350) G18(200,350) G19(250,350) G20(300,350) G21(350,350) G22(400,350) G23(450,350) G24(500,350) G25(550,350) G26(600,350) G27(650,350) H1(-650,300) H2(-600,300) H3(-550,300) H4(-500,300) H5(-450,300) H6(-400,300) H7(-350,300) H8(-300,300) H9(-250,300) H10(-200,300) H11(-150,300) H12(-100,300) H13(-50,300) H14(0,300) H15(50,300) H16(100,300) H17(150,300) H18(200,300) H19(250,300) H20(300,300) H21(350,300) H22(400,300) H23(450,300) H24(500,300) H25(550,300) H26(600,300) H27(650,300) J1(-650,250) J2(-600,250) J3(-550,250) J4(-500,250) J5(-450,250) J6(-400,250) J7(-350,250) J8(-300,250) J9(-250,250) J10(-200,250) J11(-150,250) J12(-100,250) J13(-50,250) J14(0,250) J15(50,250) J16(100,250) J17(150,250) J18(200,250) J19(250,250) J20(300,250) J21(350,250) J22(400,250) J23(450,250) J24(500,250) J25(550,250) J26(600,250) J27(650,250) K1(-650,200) K2(-600,200) K3(-550,200) K4(-500,200) K5(-450,200) K6(-400,200) K7(-350,200) K8(-300,200) K9(-250,200) K10(-200,200) K11(-150,200) K12(-100,200) K13(-50,200) K14(0,200) K15(50,200) K16(100,200) K17(150,200) K18(200,200) K19(250,200) K20(300,200) K21(350,200) K22(400,200) K23(450,200) K24(500,200) K25(550,200) K26(600,200) K27(650,200) L1(-650,150) L2(-600,150) L3(-550,150) L4(-500,150) L5(-450,150) L6(-400,150) L7(-350,150) L8(-300,150) L9(-250,150) L10(-200,150) L11(-150,150) L12(-100,150) L13(-50,150) L14(0,150) L15(50,150) L16(100,150) L17(150,150) L18(200,150) L19(250,150) L20(300,150) L21(350,150) L22(400,150) L23(450,150) L24(500,150) L25(550,150) L26(600,150) L27(650,150) M1(-650,100) M2(-600,100) M3(-550,100) M4(-500,100) M5(-450,100) M6(-400,100) M7(-350,100) M8(-300,100) M9(-250,100) M10(-200,100) M11(-150,100) M12(-100,100) M13(-50,100) M14(0,100) M15(50,100) M16(100,100) M17(150,100) M18(200,100) M19(250,100) M20(300,100) M21(350,100) M22(400,100) M23(450,100) M24(500,100) M25(550,100) M26(600,100) M27(650,100) N1(-650,50) N2(-600,50) N3(-550,50) N4(-500,50) N5(-450,50) N6(-400,50) N7(-350,50) N8(-300,50) N9(-250,50) N10(-200,50) N11(-150,50) N12(-100,50) N13(-50,50) N14(0,50) N15(50,50) N16(100,50) N17(150,50) N18(200,50) N19(250,50) N20(300,50) N21(350,50) N22(400,50) N23(450,50) N24(500,50) N25(550,50) N26(600,50) N27(650,50) P1(-650,0) P2(-600,0) P3(-550,0) P4(-500,0) P5(-450,0) P6(-400,0) P7(-350,0) P8(-300,0) P9(-250,0) P10(-200,0) P11(-150,0) P12(-100,0) P13(-50,0) P14(0,0) P15(50,0) P16(100,0) P17(150,0) P18(200,0) P19(250,0) P20(300,0) P21(350,0) P22(400,0) P23(450,0) P24(500,0) P25(550,0) P26(600,0) P27(650,0) R1(-650,-50) R2(-600,-50) R3(-550,-50) R4(-500,-50) R5(-450,-50) R6(-400,-50) R7(-350,-50) R8(-300,-50) R9(-250,-50) R10(-200,-50) R11(-150,-50) R12(-100,-50) R13(-50,-50) R14(0,-50) R15(50,-50) R16(100,-50) R17(150,-50) R18(200,-50) R19(250,-50) R20(300,-50) R21(350,-50) R22(400,-50) R23(450,-50) R24(500,-50) R25(550,-50) R26(600,-50) R27(650,-50) T1(-650,-100) T2(-600,-100) T3(-550,-100) T4(-500,-100) T5(-450,-100) T6(-400,-100) T7(-350,-100) T8(-300,-100) T9(-250,-100) T10(-200,-100) T11(-150,-100) T12(-100,-100) T13(-50,-100) T14(0,-100) T15(50,-100) T16(100,-100) T17(150,-100) T18(200,-100) T19(250,-100) T20(300,-100) T21(350,-100) T22(400,-100) T23(450,-100) T24(500,-100) T25(550,-100) T26(600,-100) T27(650,-100) U1(-650,-150) U2(-600,-150) U3(-550,-150) U4(-500,-150) U5(-450,-150) U6(-400,-150) U7(-350,-150) U8(-300,-150) U9(-250,-150) U10(-200,-150) U11(-150,-150) U12(-100,-150) U13(-50,-150) U14(0,-150) U15(50,-150) U16(100,-150) U17(150,-150) U18(200,-150) U19(250,-150) U20(300,-150) U21(350,-150) U22(400,-150) U23(450,-150) U24(500,-150) U25(550,-150) U26(600,-150) U27(650,-150) V1(-650,-200) V2(-600,-200) V3(-550,-200) V4(-500,-200) V5(-450,-200) V6(-400,-200) V7(-350,-200) V8(-300,-200) V9(-250,-200) V10(-200,-200) V11(-150,-200) V12(-100,-200) V13(-50,-200) V14(0,-200) V15(50,-200) V16(100,-200) V17(150,-200) V18(200,-200) V19(250,-200) V20(300,-200) V21(350,-200) V22(400,-200) V23(450,-200) V24(500,-200) V25(550,-200) V26(600,-200) V27(650,-200) W1(-650,-250) W2(-600,-250) W3(-550,-250) W4(-500,-250) W5(-450,-250) W6(-400,-250) W7(-350,-250) W8(-300,-250) W9(-250,-250) W10(-200,-250) W11(-150,-250) W12(-100,-250) W13(-50,-250) W14(0,-250) W15(50,-250) W16(100,-250) W17(150,-250) W18(200,-250) W19(250,-250) W20(300,-250) W21(350,-250) W22(400,-250) W23(450,-250) W24(500,-250) W25(550,-250) W26(600,-250) W27(650,-250) Y1(-650,-300) Y2(-600,-300) Y3(-550,-300) Y4(-500,-300) Y5(-450,-300) Y6(-400,-300) Y7(-350,-300) Y8(-300,-300) Y9(-250,-300) Y10(-200,-300) Y11(-150,-300) Y12(-100,-300) Y13(-50,-300) Y14(0,-300) Y15(50,-300) Y16(100,-300) Y17(150,-300) Y18(200,-300) Y19(250,-300) Y20(300,-300) Y21(350,-300) Y22(400,-300) Y23(450,-300) Y24(500,-300) Y25(550,-300) Y26(600,-300) Y27(650,-300)
  oct 23x23 smd mask+3: B1(-650,600)
Top Overlay:
  lines w8: -692,-692 -692,662 -662,692 692,692 692,-692 -692,-692
Mechanical 1:
  lines w4: -692,-692 -692,662 -662,692 692,692 692,-692 -692,-692
Mechanical 15:
  lines w4: -20,0 20,0 ; 0,-20 0,20

## BGA729 [mil] "http://www.actel.com/documents/PckgMechDrwngs.pdf (PBGA729)"
pads (729):
  oct 23x23 smd mask+3: A1(-650,650)
  round 24 smd mask+3: A2(-600,650) A3(-550,650) A4(-500,650) A5(-450,650) A6(-400,650) A7(-350,650) A8(-300,650) A9(-250,650) A10(-200,650) A11(-150,650) A12(-100,650) A13(-50,650) A14(0,650) A15(50,650) A16(100,650) A17(150,650) A18(200,650) A19(250,650) A20(300,650) A21(350,650) A22(400,650) A23(450,650) A24(500,650) A25(550,650) A26(600,650) A27(650,650) AA1(-650,-350) AA2(-600,-350) AA3(-550,-350) AA4(-500,-350) AA5(-450,-350) AA6(-400,-350) AA7(-350,-350) AA8(-300,-350) AA9(-250,-350) AA10(-200,-350) AA11(-150,-350) AA12(-100,-350) AA13(-50,-350) AA14(0,-350) AA15(50,-350) AA16(100,-350) AA17(150,-350) AA18(200,-350) AA19(250,-350) AA20(300,-350) AA21(350,-350) AA22(400,-350) AA23(450,-350) AA24(500,-350) AA25(550,-350) AA26(600,-350) AA27(650,-350) AB1(-650,-400) AB2(-600,-400) AB3(-550,-400) AB4(-500,-400) AB5(-450,-400) AB6(-400,-400) AB7(-350,-400) AB8(-300,-400) AB9(-250,-400) AB10(-200,-400) AB11(-150,-400) AB12(-100,-400) AB13(-50,-400) AB14(0,-400) AB15(50,-400) AB16(100,-400) AB17(150,-400) AB18(200,-400) AB19(250,-400) AB20(300,-400) AB21(350,-400) AB22(400,-400) AB23(450,-400) AB24(500,-400) AB25(550,-400) AB26(600,-400) AB27(650,-400) AC1(-650,-450) AC2(-600,-450) AC3(-550,-450) AC4(-500,-450) AC5(-450,-450) AC6(-400,-450) AC7(-350,-450) AC8(-300,-450) AC9(-250,-450) AC10(-200,-450) AC11(-150,-450) AC12(-100,-450) AC13(-50,-450) AC14(0,-450) AC15(50,-450) AC16(100,-450) AC17(150,-450) AC18(200,-450) AC19(250,-450) AC20(300,-450) AC21(350,-450) AC22(400,-450) AC23(450,-450) AC24(500,-450) AC25(550,-450) AC26(600,-450) AC27(650,-450) AD1(-650,-500) AD2(-600,-500) AD3(-550,-500) AD4(-500,-500) AD5(-450,-500) AD6(-400,-500) AD7(-350,-500) AD8(-300,-500) AD9(-250,-500) AD10(-200,-500) AD11(-150,-500) AD12(-100,-500) AD13(-50,-500) AD14(0,-500) AD15(50,-500) AD16(100,-500) AD17(150,-500) AD18(200,-500) AD19(250,-500) AD20(300,-500) AD21(350,-500) AD22(400,-500) AD23(450,-500) AD24(500,-500) AD25(550,-500) AD26(600,-500) AD27(650,-500) AE1(-650,-550) AE2(-600,-550) AE3(-550,-550) AE4(-500,-550) AE5(-450,-550) AE6(-400,-550) AE7(-350,-550) AE8(-300,-550) AE9(-250,-550) AE10(-200,-550) AE11(-150,-550) AE12(-100,-550) AE13(-50,-550) AE14(0,-550) AE15(50,-550) AE16(100,-550) AE17(150,-550) AE18(200,-550) AE19(250,-550) AE20(300,-550) AE21(350,-550) AE22(400,-550) AE23(450,-550) AE24(500,-550) AE25(550,-550) AE26(600,-550) AE27(650,-550) AF1(-650,-600) AF2(-600,-600) AF3(-550,-600) AF4(-500,-600) AF5(-450,-600) AF6(-400,-600) AF7(-350,-600) AF8(-300,-600) AF9(-250,-600) AF10(-200,-600) AF11(-150,-600) AF12(-100,-600) AF13(-50,-600) AF14(0,-600) AF15(50,-600) AF16(100,-600) AF17(150,-600) AF18(200,-600) AF19(250,-600) AF20(300,-600) AF21(350,-600) AF22(400,-600) AF23(450,-600) AF24(500,-600) AF25(550,-600) AF26(600,-600) AF27(650,-600) AG1(-650,-650) AG2(-600,-650) AG3(-550,-650) AG4(-500,-650) AG5(-450,-650) AG6(-400,-650) AG7(-350,-650) AG8(-300,-650) AG9(-250,-650) AG10(-200,-650) AG11(-150,-650) AG12(-100,-650) AG13(-50,-650) AG14(0,-650) AG15(50,-650) AG16(100,-650) AG17(150,-650) AG18(200,-650) AG19(250,-650) AG20(300,-650) AG21(350,-650) AG22(400,-650) AG23(450,-650) AG24(500,-650) AG25(550,-650) AG26(600,-650) AG27(650,-650) B1(-650,600) B2(-600,600) B3(-550,600) B4(-500,600) B5(-450,600) B6(-400,600) B7(-350,600) B8(-300,600) B9(-250,600) B10(-200,600) B11(-150,600) B12(-100,600) B13(-50,600) B14(0,600) B15(50,600) B16(100,600) B17(150,600) B18(200,600) B19(250,600) B20(300,600) B21(350,600) B22(400,600) B23(450,600) B24(500,600) B25(550,600) B26(600,600) B27(650,600) C1(-650,550) C2(-600,550) C3(-550,550) C4(-500,550) C5(-450,550) C6(-400,550) C7(-350,550) C8(-300,550) C9(-250,550) C10(-200,550) C11(-150,550) C12(-100,550) C13(-50,550) C14(0,550) C15(50,550) C16(100,550) C17(150,550) C18(200,550) C19(250,550) C20(300,550) C21(350,550) C22(400,550) C23(450,550) C24(500,550) C25(550,550) C26(600,550) C27(650,550) D1(-650,500) D2(-600,500) D3(-550,500) D4(-500,500) D5(-450,500) D6(-400,500) D7(-350,500) D8(-300,500) D9(-250,500) D10(-200,500) D11(-150,500) D12(-100,500) D13(-50,500) D14(0,500) D15(50,500) D16(100,500) D17(150,500) D18(200,500) D19(250,500) D20(300,500) D21(350,500) D22(400,500) D23(450,500) D24(500,500) D25(550,500) D26(600,500) D27(650,500) E1(-650,450) E2(-600,450) E3(-550,450) E4(-500,450) E5(-450,450) E6(-400,450) E7(-350,450) E8(-300,450) E9(-250,450) E10(-200,450) E11(-150,450) E12(-100,450) E13(-50,450) E14(0,450) E15(50,450) E16(100,450) E17(150,450) E18(200,450) E19(250,450) E20(300,450) E21(350,450) E22(400,450) E23(450,450) E24(500,450) E25(550,450) E26(600,450) E27(650,450) F1(-650,400) F2(-600,400) F3(-550,400) F4(-500,400) F5(-450,400) F6(-400,400) F7(-350,400) F8(-300,400) F9(-250,400) F10(-200,400) F11(-150,400) F12(-100,400) F13(-50,400) F14(0,400) F15(50,400) F16(100,400) F17(150,400) F18(200,400) F19(250,400) F20(300,400) F21(350,400) F22(400,400) F23(450,400) F24(500,400) F25(550,400) F26(600,400) F27(650,400) G1(-650,350) G2(-600,350) G3(-550,350) G4(-500,350) G5(-450,350) G6(-400,350) G7(-350,350) G8(-300,350) G9(-250,350) G10(-200,350) G11(-150,350) G12(-100,350) G13(-50,350) G14(0,350) G15(50,350) G16(100,350) G17(150,350) G18(200,350) G19(250,350) G20(300,350) G21(350,350) G22(400,350) G23(450,350) G24(500,350) G25(550,350) G26(600,350) G27(650,350) H1(-650,300) H2(-600,300) H3(-550,300) H4(-500,300) H5(-450,300) H6(-400,300) H7(-350,300) H8(-300,300) H9(-250,300) H10(-200,300) H11(-150,300) H12(-100,300) H13(-50,300) H14(0,300) H15(50,300) H16(100,300) H17(150,300) H18(200,300) H19(250,300) H20(300,300) H21(350,300) H22(400,300) H23(450,300) H24(500,300) H25(550,300) H26(600,300) H27(650,300) J1(-650,250) J2(-600,250) J3(-550,250) J4(-500,250) J5(-450,250) J6(-400,250) J7(-350,250) J8(-300,250) J9(-250,250) J10(-200,250) J11(-150,250) J12(-100,250) J13(-50,250) J14(0,250) J15(50,250) J16(100,250) J17(150,250) J18(200,250) J19(250,250) J20(300,250) J21(350,250) J22(400,250) J23(450,250) J24(500,250) J25(550,250) J26(600,250) J27(650,250) K1(-650,200) K2(-600,200) K3(-550,200) K4(-500,200) K5(-450,200) K6(-400,200) K7(-350,200) K8(-300,200) K9(-250,200) K10(-200,200) K11(-150,200) K12(-100,200) K13(-50,200) K14(0,200) K15(50,200) K16(100,200) K17(150,200) K18(200,200) K19(250,200) K20(300,200) K21(350,200) K22(400,200) K23(450,200) K24(500,200) K25(550,200) K26(600,200) K27(650,200) L1(-650,150) L2(-600,150) L3(-550,150) L4(-500,150) L5(-450,150) L6(-400,150) L7(-350,150) L8(-300,150) L9(-250,150) L10(-200,150) L11(-150,150) L12(-100,150) L13(-50,150) L14(0,150) L15(50,150) L16(100,150) L17(150,150) L18(200,150) L19(250,150) L20(300,150) L21(350,150) L22(400,150) L23(450,150) L24(500,150) L25(550,150) L26(600,150) L27(650,150) M1(-650,100) M2(-600,100) M3(-550,100) M4(-500,100) M5(-450,100) M6(-400,100) M7(-350,100) M8(-300,100) M9(-250,100) M10(-200,100) M11(-150,100) M12(-100,100) M13(-50,100) M14(0,100) M15(50,100) M16(100,100) M17(150,100) M18(200,100) M19(250,100) M20(300,100) M21(350,100) M22(400,100) M23(450,100) M24(500,100) M25(550,100) M26(600,100) M27(650,100) N1(-650,50) N2(-600,50) N3(-550,50) N4(-500,50) N5(-450,50) N6(-400,50) N7(-350,50) N8(-300,50) N9(-250,50) N10(-200,50) N11(-150,50) N12(-100,50) N13(-50,50) N14(0,50) N15(50,50) N16(100,50) N17(150,50) N18(200,50) N19(250,50) N20(300,50) N21(350,50) N22(400,50) N23(450,50) N24(500,50) N25(550,50) N26(600,50) N27(650,50) P1(-650,0) P2(-600,0) P3(-550,0) P4(-500,0) P5(-450,0) P6(-400,0) P7(-350,0) P8(-300,0) P9(-250,0) P10(-200,0) P11(-150,0) P12(-100,0) P13(-50,0) P14(0,0) P15(50,0) P16(100,0) P17(150,0) P18(200,0) P19(250,0) P20(300,0) P21(350,0) P22(400,0) P23(450,0) P24(500,0) P25(550,0) P26(600,0) P27(650,0) R1(-650,-50) R2(-600,-50) R3(-550,-50) R4(-500,-50) R5(-450,-50) R6(-400,-50) R7(-350,-50) R8(-300,-50) R9(-250,-50) R10(-200,-50) R11(-150,-50) R12(-100,-50) R13(-50,-50) R14(0,-50) R15(50,-50) R16(100,-50) R17(150,-50) R18(200,-50) R19(250,-50) R20(300,-50) R21(350,-50) R22(400,-50) R23(450,-50) R24(500,-50) R25(550,-50) R26(600,-50) R27(650,-50) T1(-650,-100) T2(-600,-100) T3(-550,-100) T4(-500,-100) T5(-450,-100) T6(-400,-100) T7(-350,-100) T8(-300,-100) T9(-250,-100) T10(-200,-100) T11(-150,-100) T12(-100,-100) T13(-50,-100) T14(0,-100) T15(50,-100) T16(100,-100) T17(150,-100) T18(200,-100) T19(250,-100) T20(300,-100) T21(350,-100) T22(400,-100) T23(450,-100) T24(500,-100) T25(550,-100) T26(600,-100) T27(650,-100) U1(-650,-150) U2(-600,-150) U3(-550,-150) U4(-500,-150) U5(-450,-150) U6(-400,-150) U7(-350,-150) U8(-300,-150) U9(-250,-150) U10(-200,-150) U11(-150,-150) U12(-100,-150) U13(-50,-150) U14(0,-150) U15(50,-150) U16(100,-150) U17(150,-150) U18(200,-150) U19(250,-150) U20(300,-150) U21(350,-150) U22(400,-150) U23(450,-150) U24(500,-150) U25(550,-150) U26(600,-150) U27(650,-150) V1(-650,-200) V2(-600,-200) V3(-550,-200) V4(-500,-200) V5(-450,-200) V6(-400,-200) V7(-350,-200) V8(-300,-200) V9(-250,-200) V10(-200,-200) V11(-150,-200) V12(-100,-200) V13(-50,-200) V14(0,-200) V15(50,-200) V16(100,-200) V17(150,-200) V18(200,-200) V19(250,-200) V20(300,-200) V21(350,-200) V22(400,-200) V23(450,-200) V24(500,-200) V25(550,-200) V26(600,-200) V27(650,-200) W1(-650,-250) W2(-600,-250) W3(-550,-250) W4(-500,-250) W5(-450,-250) W6(-400,-250) W7(-350,-250) W8(-300,-250) W9(-250,-250) W10(-200,-250) W11(-150,-250) W12(-100,-250) W13(-50,-250) W14(0,-250) W15(50,-250) W16(100,-250) W17(150,-250) W18(200,-250) W19(250,-250) W20(300,-250) W21(350,-250) W22(400,-250) W23(450,-250) W24(500,-250) W25(550,-250) W26(600,-250) W27(650,-250) Y1(-650,-300) Y2(-600,-300) Y3(-550,-300) Y4(-500,-300) Y5(-450,-300) Y6(-400,-300) Y7(-350,-300) Y8(-300,-300) Y9(-250,-300) Y10(-200,-300) Y11(-150,-300) Y12(-100,-300) Y13(-50,-300) Y14(0,-300) Y15(50,-300) Y16(100,-300) Y17(150,-300) Y18(200,-300) Y19(250,-300) Y20(300,-300) Y21(350,-300) Y22(400,-300) Y23(450,-300) Y24(500,-300) Y25(550,-300) Y26(600,-300) Y27(650,-300)
Top Overlay:
  lines w8: -692,-692 692,-692 692,692 -662,692 -692,662 -692,-692
Mechanical 1:
  lines w4: -692,-692 692,-692 692,692 -662,692 -692,662 -692,-692
Mechanical 15:
  lines w4: -20,0 20,0 ; 0,-20 0,20